# Altium schematic symbol library BEE_DAL_IRL.SchLib: 3 symbols
Pins are listed as number, name and electrical type; pins without a type are passive.

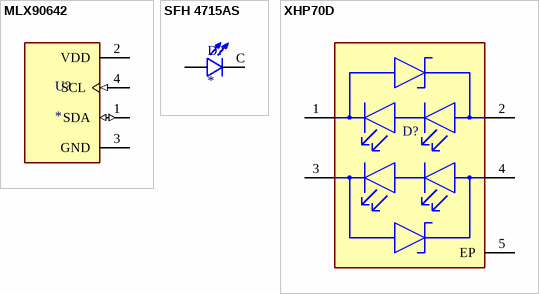
[diagram p0: symbols MLX90642 to XHP70D]

## MLX90642
designator U?
32X24 THERMAL ARRAY, 110DEG FOV
footprint TO39 package
pins: 1 SDA (io), 2 VDD (power), 3 GND (power), 4 SCL (in)

## SFH 4715AS
designator D?
Infrared (IR) Emitter 860nm 3.2V 1.5A
footprint SFH 4715AS
pins: A1 A, A2 A, C

## XHP70D
designator D?
LED Lighting XLamp® XHP70.3 White, Cool 5000K 11.2V 1.05A 120° 2828
footprint XHP70.3 High Intensity
pins: 1 1 CATHODE, 2 1 ANODE, 3 2 CATHODE, 4 2 ANODE, 5 EP